# Altium footprint library Inductor_Footprint.PcbLib: 1 footprints
Each footprint in its own frame and in the unit in brackets; x right, y up, seen from the top. Pads: shape width x height; smd on the part's side, far side on the other; paste and mask are expansions set on the pad; w line width, h text height; cw(c..) or ccw(c..) is an arc to the next point about the centre after c.
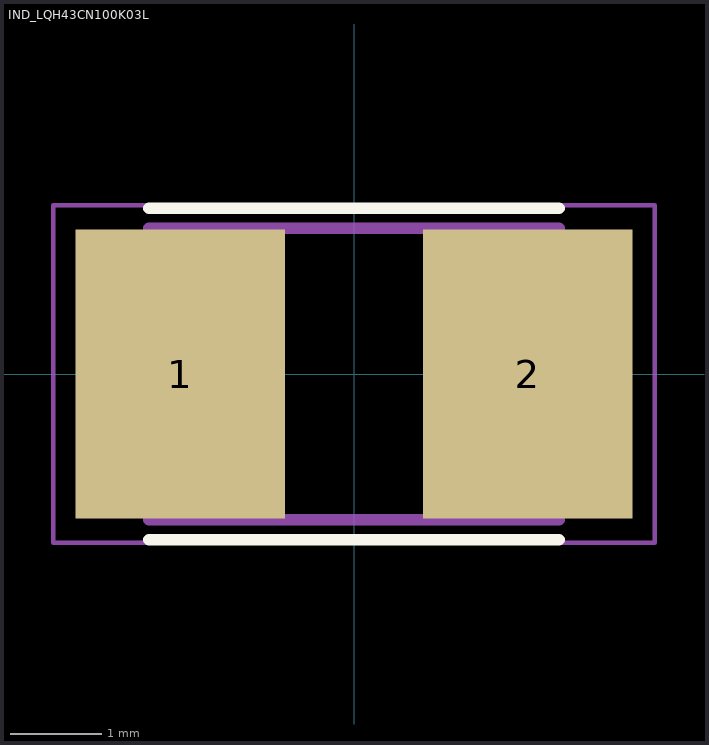
[diagram p0: the footprint, top view; thin cyan lines are the x and y axes]

## IND_LQH43CN100K03L [mm]
height 2.8
pads (2):
  rect 2.3x3.175 smd: 1(-1.905,0) 2(1.905,0)
Top Overlay:
  lines w0.127: -2.25,-1.82 2.25,-1.82 ; -2.25,1.82 2.25,1.82
Mechanical 13:
  lines w0.127: -2.25,-1.6 -2.25,1.6 2.25,1.6 2.25,-1.6 -2.25,-1.6
Mechanical 15:
  lines w0.05: -3.302,-1.85 3.302,-1.85 3.302,1.85 -3.302,1.85 -3.302,-1.85
3D body "step_temp.STEP": height 2.8, standoff 0, extent -2.25,-1.6 2.25,1.6